# Altium schematic symbol library Schlib1.SchLib: 1 symbol
Pins are listed as number, name and electrical type; pins without a type are passive.

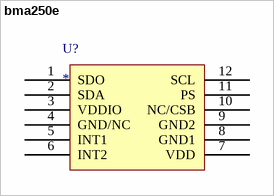
[diagram p0: symbol bma250e]

## bma250e
designator U?
footprint bma250e (Footprint not found)
pins: 1 SDO, 2 SDA, 3 VDDIO, 4 GND/NC, 5 INT1, 6 INT2, 7 VDD, 8 GND1, 9 GND2, 10 NC/CSB, 11 PS, 12 SCL